# Altium schematic symbol library KAF32LR71H106KL.SchLib: 1 symbol
Pins are listed as number, name and electrical type; pins without a type are passive.

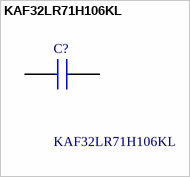
[diagram p0: symbol KAF32LR71H106KL]

## KAF32LR71H106KL
designator C?
Multilayer Ceramic Capacitors MLCC - SMD/SMT 50V 10uF X7R 1210 10% AEC-Q200 FLEXITERM; Manufacturer_Name: Kyocera AVX; Geometry.Height: 1.78mm; Mouser Part Number: 581-KAF32LR71H106KL; Mouser Price/Stock: https://www.mouser.co.uk/ProductDetail/KYOCERA-AVX/KAF32LR71H106KL?qs=Jm2GQyTW%2FbjRFOhV%2FdegQw%3D%3D; Manufacturer_Part_Number: KAF32LR71H106KL; Datasheet Link: https://www.mouser.in/datasheet/2/40/AutoMLCCKAF-3218225.pdf
footprint CAPC3225X178N
pins: 1, 2